# EAGLE library part PM20C05VBDN (library ruark2)
CONN HEADER SMD 10POS 2MM
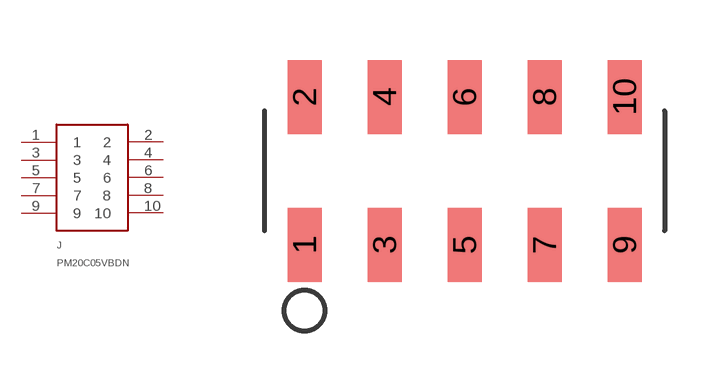
[diagram p138: symbol with the pads of PM20C05VBDN; footprint PM20C05VBDN]

Designator prefix J

## PM20C05VBDN (PARTNO: 1849-1015-ND)  [PM20C05VBDN]
1  1
2  2
3  3
4  4
5  5
6  6
7  7
8  8
9  9
10  10

## Footprint PM20C05VBDN (pad centres in mm)
smd 0.85 x 1.85: 1 -4,-1.85; 2 -4,1.85; 3 -2,-1.85; 4 -2,1.85; 5 0,-1.85; 6 0,1.85; 7 2,-1.85; 8 2,1.85; 9 4,-1.85; 10 4,1.85